# Altium schematic symbol library IC_LEVELTRANSLATOR.SchLib: 1 symbol
Pins are listed as number, name and electrical type; pins without a type are passive.

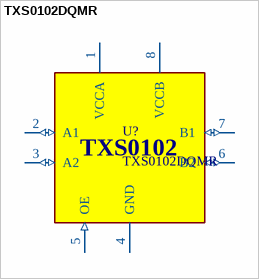
[diagram p0: symbol TXS0102DQMR]

## TXS0102DQMR
designator U?
TXS0102 2-Bit Bidirectional Voltage-Level Translator for Open-Drain and Push-Pull / Applications; MPN: *; LCSC: *
footprint X2SON8-_TXS0102DQMR
pins: 1 VCCA (power), 2 A1 (io), 3 A2 (io), 4 GND (power), 5 OE (in), 6 B2 (io), 7 B1 (io), 8 VCCB (power)
text: TXS0102